# EAGLE library part PCA9615 (library sf-bluegiga)
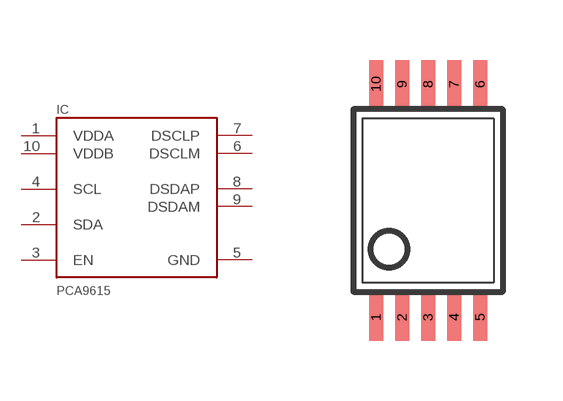
[diagram p1: symbol with the pads of TSSOP10; footprint TSSOP10]

Designator prefix IC

## PCA9615DP  [TSSOP10]
1  VDDA  pwr
2  SDA
3  EN
4  SCL
5  GND  pwr
6  DSCLM
7  DSCLP
8  DSDAP
9  DSDAM
10  VDDB  pwr

## Footprint TSSOP10 (pad centres in mm)
smd 0.35 x 1.2: 1 -1.3,-2.918; 2 -0.65,-2.918; 3 0,-2.918; 4 0.65,-2.918; 5 1.3,-2.918; 6 1.3,2.918; 7 0.65,2.918; 8 0,2.918; 9 -0.65,2.918; 10 -1.3,2.918